# Altium footprint library 2829.PcbLib: 1 footprints
Each footprint in its own frame and in the unit in brackets; x right, y up, seen from the top. Pads: shape width x height; smd on the part's side, far side on the other; paste and mask are expansions set on the pad; w line width, h text height; cw(c..) or ccw(c..) is an arc to the next point about the centre after c.
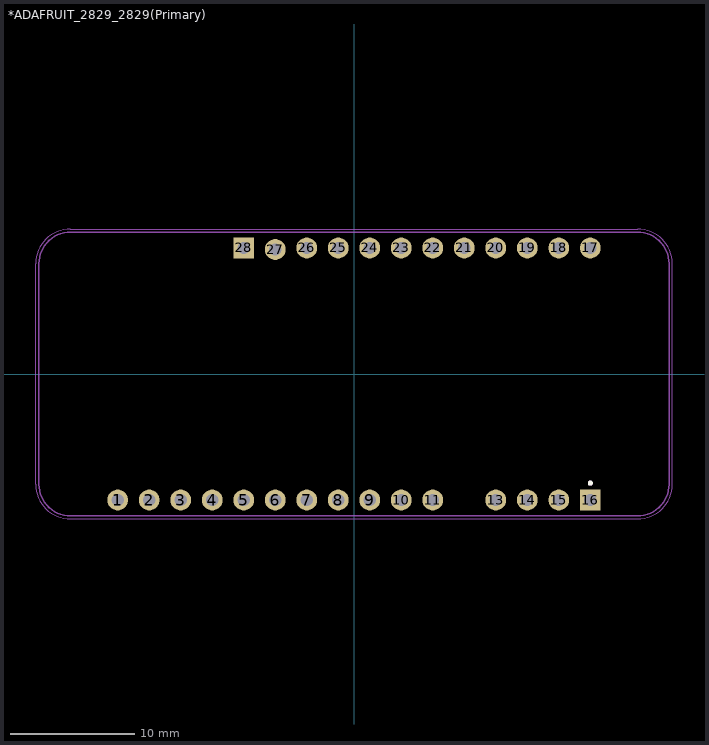
[diagram p0: the footprint, top view; thin cyan lines are the x and y axes]

## *ADAFRUIT_2829_2829(Primary) [mil]
pads (27):
  round 66 hole 39.37: 1(-750,-400) 2(-650,-400) 3(-550,-400) 4(-450,-400) 5(-350,-400) 6(-250,-400) 7(-150,-400) 8(-50,-400) 9(50,-400) 10(150,-400) 11(250,-400) 13(450,-400) 14(550,-400) 15(650,-400) 17(750,400) 18(650,400) 19(550,400) 20(450,400) 21(350,400) 22(250,400) 23(150,400) 24(50,400) 25(-50,400) 26(-150,400) 27(-250,395)
  rect 66x66 hole 39.37: 16(750,-400) 28(-350,400)
Top Overlay:
  circle w7.87: c750,-346.46 r3.94
Mechanical 4:
  circle w7.87: c750,-346.46 r3.94
  circle w7.87: c750,-346.46 r3.94
  lines w5: -1000,-350 ccw(c-900,-350) -900,-450 ; -1000,-350 ccw(c-900,-350) -900,-450 ; -1000,-350 -1000,350 ; -1000,-350 -1000,350 ; -1000,350 cw(c-900,350) -900,450 ; -1000,350 cw(c-900,350) -900,450 ; -900,-450 900,-450 ; -900,-450 900,-450 ; -900,450 900,450 ; -900,450 900,450 ; 900,-450 ccw(c900,-350) 1000,-350 ; 900,-450 ccw(c900,-350) 1000,-350 ; 900,450 cw(c900,350) 1000,350 ; 900,450 cw(c900,350) 1000,350 ; 1000,-350 1000,350 ; 1000,-350 1000,350
Courtyard Bottom:
  lines w1.97: -1009.84,-350 ccw(c-900,-350) -900,-459.84 900,-459.84 ccw(c900,-350) 1009.84,-350 1009.84,350 ccw(c900,350) 900,459.84 -900,459.84 ccw(c-900,350) -1009.84,350 -1009.84,-350
3D body: height 383.46, standoff 100, extent -1015.2,-449.99 1000,450.01